# Altium footprint library SN7002K.PcbLib: 4 footprints
Each footprint in its own frame and in the unit in brackets; x right, y up, seen from the top. Pads: shape width x height; smd on the part's side, far side on the other; paste and mask are expansions set on the pad; w line width, h text height; cw(c..) or ccw(c..) is an arc to the next point about the centre after c.
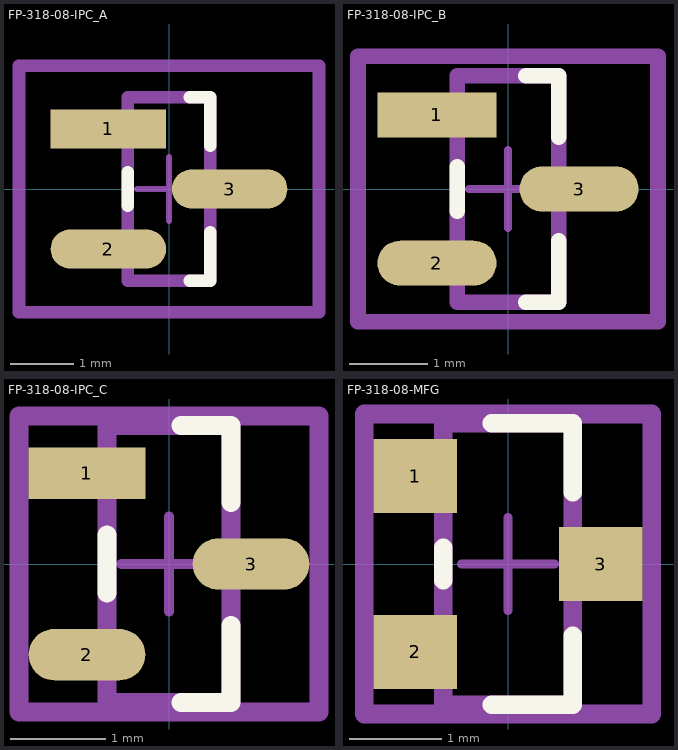
[diagram p0: the footprints below, top view; thin cyan lines are the x and y axes]

## FP-318-08-IPC_A [mm]
pads (3):
  rect 1.824x0.618 smd paste+0 mask+0: 1(-0.96,0.95)
  rrect100% 1.824x0.618 smd paste+0 mask+0: 2(-0.96,-0.95) 3(0.96,0)
Top Overlay:
  lines w0.2: -0.65,-0.266 -0.65,0.266 ; 0.327,-1.45 0.65,-1.45 0.65,-0.684 ; 0.327,1.45 0.65,1.45 0.65,0.684
Top Assembly:
  lines w0.2: -2.372,-1.95 2.372,-1.95 2.372,1.95 -2.372,1.95 -2.372,-1.95
  text ".Designator" at 0,-0.001 h1
Top 3D Body:
  lines w0.2: -0.65,-1.45 0.65,-1.45 0.65,1.45 -0.65,1.45 -0.65,-1.45
Top Courtyard:
  lines w0.2: -2.372,-1.95 2.372,-1.95 2.372,1.95 -2.372,1.95 -2.372,-1.95
Top Component Center:
  lines w0.1: -0.5,0 0.5,0 ; 0,-0.5 0,0.5
3D body "Trans_ON_Semiconductor_2N7002K_eec.STEP": height 0.25, standoff 0, extent -2.372,-1.95 2.372,1.95

## FP-318-08-IPC_B [mm]
pads (3):
  rect 1.524x0.578 smd paste+0 mask+0: 1(-0.91,0.95)
  rrect100% 1.524x0.578 smd paste+0 mask+0: 2(-0.91,-0.95) 3(0.91,0)
Top Overlay:
  lines w0.2: -0.65,-0.286 -0.65,0.286 ; 0.227,-1.45 0.65,-1.45 0.65,-0.664 ; 0.227,1.45 0.65,1.45 0.65,0.664
Top Assembly:
  lines w0.2: -1.922,-1.7 1.922,-1.7 1.922,1.7 -1.922,1.7 -1.922,-1.7
  text ".Designator" at 0,-0.001 h1
Top 3D Body:
  lines w0.2: -0.65,-1.45 0.65,-1.45 0.65,1.45 -0.65,1.45 -0.65,-1.45
Top Courtyard:
  lines w0.2: -1.922,-1.7 1.922,-1.7 1.922,1.7 -1.922,1.7 -1.922,-1.7
Top Component Center:
  lines w0.1: -0.5,0 0.5,0 ; 0,-0.5 0,0.5
3D body "Trans_ON_Semiconductor_2N7002K_eec.STEP": height 0.25, standoff 0, extent -1.922,-1.7 1.922,1.7

## FP-318-08-IPC_C [mm]
pads (3):
  rect 1.224x0.538 smd paste+0 mask+0: 1(-0.86,0.95)
  rrect100% 1.224x0.538 smd paste+0 mask+0: 2(-0.86,-0.95) 3(0.86,0)
Top Overlay:
  lines w0.2: -0.65,-0.306 -0.65,0.306 ; 0.127,-1.45 0.65,-1.45 0.65,-0.644 ; 0.127,1.45 0.65,1.45 0.65,0.644
Top Assembly:
  lines w0.2: -1.572,-1.55 1.572,-1.55 1.572,1.55 -1.572,1.55 -1.572,-1.55
  text ".Designator" at 0,-0.001 h1
Top 3D Body:
  lines w0.2: -0.65,-1.45 0.65,-1.45 0.65,1.45 -0.65,1.45 -0.65,-1.45
Top Courtyard:
  lines w0.2: -1.572,-1.55 1.572,-1.55 1.572,1.55 -1.572,1.55 -1.572,-1.55
Top Component Center:
  lines w0.1: -0.5,0 0.5,0 ; 0,-0.5 0,0.5
3D body "Trans_ON_Semiconductor_2N7002K_eec.STEP": height 0.25, standoff 0, extent -1.572,-1.55 1.572,1.55

## FP-318-08-MFG [mm]
pads (3):
  rect 0.9x0.8 smd paste+0 mask+0: 1(-1,0.95) 2(-1,-0.95) 3(1,0)
Top Overlay:
  lines w0.2: -0.7,-0.175 -0.7,0.175 ; -0.175,-1.52 0.7,-1.52 0.7,-0.775 ; -0.175,1.52 0.7,1.52 0.7,0.775
Top Assembly:
  lines w0.2: -1.55,-1.62 1.55,-1.62 1.55,1.62 -1.55,1.62 -1.55,-1.62
  text ".Designator" at 0,-0.001 h1
Top 3D Body:
  lines w0.2: -0.7,-1.52 0.7,-1.52 0.7,1.52 -0.7,1.52 -0.7,-1.52
Top Courtyard:
  lines w0.2: -1.55,-1.62 1.55,-1.62 1.55,1.62 -1.55,1.62 -1.55,-1.62
Top Component Center:
  lines w0.1: -0.5,0 0.5,0 ; 0,-0.5 0,0.5
3D body "Trans_ON_Semiconductor_2N7002K_eec.STEP": height 0.25, standoff 0, extent -1.55,-1.62 1.55,1.62